# Altium schematic symbol library STM8系列单片机.SchLib: 36 symbols
Pins are listed as number, name and electrical type; pins without a type are passive.

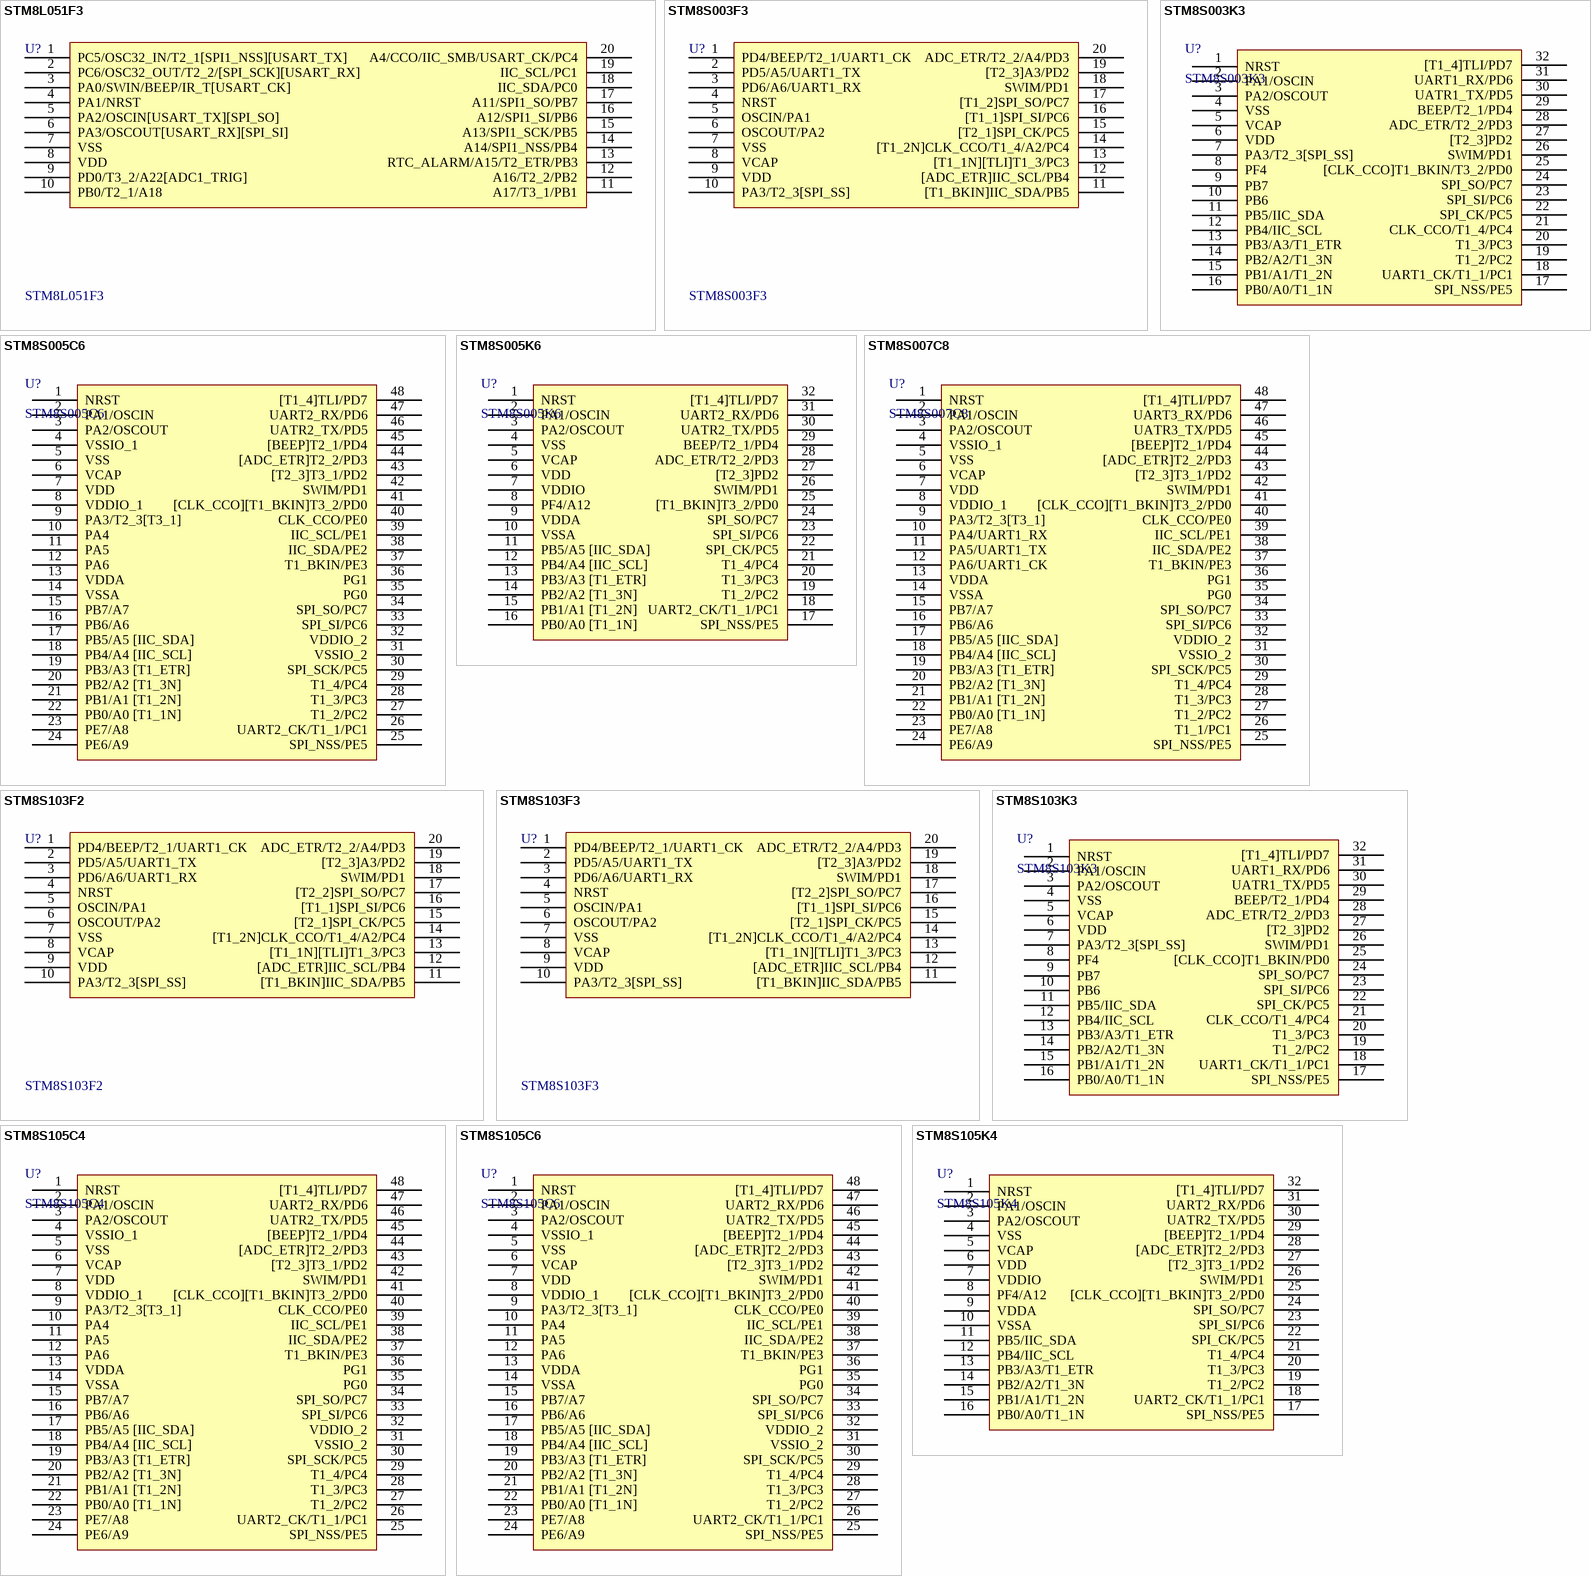
[diagram p0: symbols STM8L051F3 to STM8S105K4]

## STM8L051F3
designator U?
8位STM单片机; 版权归属: 黎明电子style; BOM名称: 8位STM单片机; 学习资源: https://lmdzstyle.taobao.com/
footprint TSSOP20_N (6.5*6.4*1（长宽高）)
footprint TSSOP20_L (6.5*6.4*1（长宽高）)
footprint TSSOP20_M (6.5*6.4*1（长宽高）)
pins: 1 PC5/OSC32_IN/T2_1[SPI1_NSS][USART_TX], 2 PC6/OSC32_OUT/T2_2/[SPI_SCK][USART_RX], 3 PA0/SWIN/BEEP/IR_T[USART_CK], 4 PA1/NRST, 5 PA2/OSCIN[USART_TX][SPI_SO], 6 PA3/OSCOUT[USART_RX][SPI_SI], 7 VSS, 8 VDD, 9 PD0/T3_2/A22[ADC1_TRIG], 10 PB0/T2_1/A18, 11 A17/T3_1/PB1, 12 A16/T2_2/PB2, 13 RTC_ALARM/A15/T2_ETR/PB3, 14 A14/SPI1_NSS/PB4, 15 A13/SPI1_SCK/PB5, 16 A12/SPI1_SI/PB6, 17 A11/SPI1_SO/PB7, 18 IIC_SDA/PC0, 19 IIC_SCL/PC1, 20 A4/CCO/IIC_SMB/USART_CK/PC4

## STM8S003F3
designator U?
8位STM单片机; 版权归属: 黎明电子style; BOM名称: 8位STM单片机; 学习资源: https://lmdzstyle.taobao.com/
footprint TSSOP20_N (6.5*6.4*1（长宽高）)
footprint TSSOP20_L (6.5*6.4*1（长宽高）)
footprint TSSOP20_M (6.5*6.4*1（长宽高）)
pins: 1 PD4/BEEP/T2_1/UART1_CK, 2 PD5/A5/UART1_TX, 3 PD6/A6/UART1_RX, 4 NRST, 5 OSCIN/PA1, 6 OSCOUT/PA2, 7 VSS, 8 VCAP, 9 VDD, 10 PA3/T2_3[SPI_SS], 11 [T1_BKIN]IIC_SDA/PB5, 12 [ADC_ETR]IIC_SCL/PB4, 13 [T1_1N][TLI]T1_3/PC3, 14 [T1_2N]CLK_CCO/T1_4/A2/PC4, 15 [T2_1]SPI_CK/PC5, 16 [T1_1]SPI_SI/PC6, 17 [T1_2]SPI_SO/PC7, 18 SWIM/PD1, 19 [T2_3]A3/PD2, 20 ADC_ETR/T2_2/A4/PD3

## STM8S003K3
designator U?
8位STM单片机; 版权归属: 黎明电子style; BOM名称: 8位STM单片机; 学习资源: https://lmdzstyle.taobao.com/
footprint LQFP32 7X7_N (7*7*1.4(长宽高，除引脚）)
footprint LQFP32 7X7_L (7*7*1.4(长宽高，除引脚）)
footprint LQFP32 7X7_M (7*7*1.4(长宽高，除引脚）)
pins: 1 NRST, 2 PA1/OSCIN, 3 PA2/OSCOUT, 4 VSS, 5 VCAP, 6 VDD, 7 PA3/T2_3[SPI_SS], 8 PF4, 9 PB7, 10 PB6, 11 PB5/IIC_SDA, 12 PB4/IIC_SCL, 13 PB3/A3/T1_ETR, 14 PB2/A2/T1_3N, 15 PB1/A1/T1_2N, 16 PB0/A0/T1_1N, 17 SPI_NSS/PE5, 18 UART1_CK/T1_1/PC1, 19 T1_2/PC2, 20 T1_3/PC3, 21 CLK_CCO/T1_4/PC4, 22 SPI_CK/PC5, 23 SPI_SI/PC6, 24 SPI_SO/PC7, 25 [CLK_CCO]T1_BKIN/T3_2/PD0, 26 SWIM/PD1, 27 [T2_3]PD2, 28 ADC_ETR/T2_2/PD3, 29 BEEP/T2_1/PD4, 30 UATR1_TX/PD5, 31 UART1_RX/PD6, 32 [T1_4]TLI/PD7

## STM8S005C6
designator U?
8位STM单片机; 版权归属: 黎明电子style; BOM名称: 8位STM单片机; 学习资源: https://lmdzstyle.taobao.com/
footprint LQFP48 7x7_N (7*7*1.4(长宽高，除引脚）)
footprint LQFP48 7x7_L (7*7*1.4(长宽高，除引脚）)
footprint LQFP48 7x7_M (7*7*1.4(长宽高，除引脚）)
pins: 1 NRST, 2 PA1/OSCIN, 3 PA2/OSCOUT, 4 VSSIO_1, 5 VSS, 6 VCAP, 7 VDD, 8 VDDIO_1, 9 PA3/T2_3[T3_1], 10 PA4, 11 PA5, 12 PA6, 13 VDDA, 14 VSSA, 15 PB7/A7, 16 PB6/A6, 17 PB5/A5 [IIC_SDA], 18 PB4/A4 [IIC_SCL], 19 PB3/A3 [T1_ETR], 20 PB2/A2 [T1_3N], 21 PB1/A1 [T1_2N], 22 PB0/A0 [T1_1N], 23 PE7/A8, 24 PE6/A9, 25 SPI_NSS/PE5, 26 UART2_CK/T1_1/PC1, 27 T1_2/PC2, 28 T1_3/PC3, 29 T1_4/PC4, 30 SPI_SCK/PC5, 31 VSSIO_2, 32 VDDIO_2, 33 SPI_SI/PC6, 34 SPI_SO/PC7, 35 PG0, 36 PG1, 37 T1_BKIN/PE3, 38 IIC_SDA/PE2, 39 IIC_SCL/PE1, 40 CLK_CCO/PE0, 41 [CLK_CCO][T1_BKIN]T3_2/PD0, 42 SWIM/PD1, 43 [T2_3]T3_1/PD2, 44 [ADC_ETR]T2_2/PD3, 45 [BEEP]T2_1/PD4, 46 UATR2_TX/PD5, 47 UART2_RX/PD6, 48 [T1_4]TLI/PD7

## STM8S005K6
designator U?
8位STM单片机; 版权归属: 黎明电子style; BOM名称: 8位STM单片机; 学习资源: https://lmdzstyle.taobao.com/
footprint LQFP32 7X7_N (7*7*1.4(长宽高，除引脚）)
footprint LQFP32 7X7_L (7*7*1.4(长宽高，除引脚）)
footprint LQFP32 7X7_M (7*7*1.4(长宽高，除引脚）)
pins: 1 NRST, 2 PA1/OSCIN, 3 PA2/OSCOUT, 4 VSS, 5 VCAP, 6 VDD, 7 VDDIO, 8 PF4/A12, 9 VDDA, 10 VSSA, 11 PB5/A5 [IIC_SDA], 12 PB4/A4 [IIC_SCL], 13 PB3/A3 [T1_ETR], 14 PB2/A2 [T1_3N], 15 PB1/A1 [T1_2N], 16 PB0/A0 [T1_1N], 17 SPI_NSS/PE5, 18 UART2_CK/T1_1/PC1, 19 T1_2/PC2, 20 T1_3/PC3, 21 T1_4/PC4, 22 SPI_CK/PC5, 23 SPI_SI/PC6, 24 SPI_SO/PC7, 25 [T1_BKIN]T3_2/PD0, 26 SWIM/PD1, 27 [T2_3]PD2, 28 ADC_ETR/T2_2/PD3, 29 BEEP/T2_1/PD4, 30 UATR2_TX/PD5, 31 UART2_RX/PD6, 32 [T1_4]TLI/PD7

## STM8S007C8
designator U?
8位STM单片机; 版权归属: 黎明电子style; BOM名称: 8位STM单片机; 学习资源: https://lmdzstyle.taobao.com/
footprint LQFP48 7x7_N (7*7*1.4(长宽高，除引脚）)
footprint LQFP48 7x7_L (7*7*1.4(长宽高，除引脚）)
footprint LQFP48 7x7_M (7*7*1.4(长宽高，除引脚）)
pins: 1 NRST, 2 PA1/OSCIN, 3 PA2/OSCOUT, 4 VSSIO_1, 5 VSS, 6 VCAP, 7 VDD, 8 VDDIO_1, 9 PA3/T2_3[T3_1], 10 PA4/UART1_RX, 11 PA5/UART1_TX, 12 PA6/UART1_CK, 13 VDDA, 14 VSSA, 15 PB7/A7, 16 PB6/A6, 17 PB5/A5 [IIC_SDA], 18 PB4/A4 [IIC_SCL], 19 PB3/A3 [T1_ETR], 20 PB2/A2 [T1_3N], 21 PB1/A1 [T1_2N], 22 PB0/A0 [T1_1N], 23 PE7/A8, 24 PE6/A9, 25 SPI_NSS/PE5, 26 T1_1/PC1, 27 T1_2/PC2, 28 T1_3/PC3, 29 T1_4/PC4, 30 SPI_SCK/PC5, 31 VSSIO_2, 32 VDDIO_2, 33 SPI_SI/PC6, 34 SPI_SO/PC7, 35 PG0, 36 PG1, 37 T1_BKIN/PE3, 38 IIC_SDA/PE2, 39 IIC_SCL/PE1, 40 CLK_CCO/PE0, 41 [CLK_CCO][T1_BKIN]T3_2/PD0, 42 SWIM/PD1, 43 [T2_3]T3_1/PD2, 44 [ADC_ETR]T2_2/PD3, 45 [BEEP]T2_1/PD4, 46 UATR3_TX/PD5, 47 UART3_RX/PD6, 48 [T1_4]TLI/PD7

## STM8S103F2
designator U?
8位STM单片机; 版权归属: 黎明电子style; BOM名称: 8位STM单片机; 学习资源: https://lmdzstyle.taobao.com/
footprint TSSOP20_N (6.5*6.4*1（长宽高）)
footprint TSSOP20_L (6.5*6.4*1（长宽高）)
footprint TSSOP20_M (6.5*6.4*1（长宽高）)
pins: 1 PD4/BEEP/T2_1/UART1_CK, 2 PD5/A5/UART1_TX, 3 PD6/A6/UART1_RX, 4 NRST, 5 OSCIN/PA1, 6 OSCOUT/PA2, 7 VSS, 8 VCAP, 9 VDD, 10 PA3/T2_3[SPI_SS], 11 [T1_BKIN]IIC_SDA/PB5, 12 [ADC_ETR]IIC_SCL/PB4, 13 [T1_1N][TLI]T1_3/PC3, 14 [T1_2N]CLK_CCO/T1_4/A2/PC4, 15 [T2_1]SPI_CK/PC5, 16 [T1_1]SPI_SI/PC6, 17 [T2_2]SPI_SO/PC7, 18 SWIM/PD1, 19 [T2_3]A3/PD2, 20 ADC_ETR/T2_2/A4/PD3

## STM8S103F3
designator U?
8位STM单片机; 版权归属: 黎明电子style; BOM名称: 8位STM单片机; 学习资源: https://lmdzstyle.taobao.com/
footprint TSSOP20_N (6.5*6.4*1（长宽高）)
footprint TSSOP20_L (6.5*6.4*1（长宽高）)
footprint TSSOP20_M (6.5*6.4*1（长宽高）)
pins: 1 PD4/BEEP/T2_1/UART1_CK, 2 PD5/A5/UART1_TX, 3 PD6/A6/UART1_RX, 4 NRST, 5 OSCIN/PA1, 6 OSCOUT/PA2, 7 VSS, 8 VCAP, 9 VDD, 10 PA3/T2_3[SPI_SS], 11 [T1_BKIN]IIC_SDA/PB5, 12 [ADC_ETR]IIC_SCL/PB4, 13 [T1_1N][TLI]T1_3/PC3, 14 [T1_2N]CLK_CCO/T1_4/A2/PC4, 15 [T2_1]SPI_CK/PC5, 16 [T1_1]SPI_SI/PC6, 17 [T2_2]SPI_SO/PC7, 18 SWIM/PD1, 19 [T2_3]A3/PD2, 20 ADC_ETR/T2_2/A4/PD3

## STM8S103K3
designator U?
8位STM单片机; 版权归属: 黎明电子style; BOM名称: 8位STM单片机; 学习资源: https://lmdzstyle.taobao.com/
footprint LQFP32 7X7_N (7*7*1.4(长宽高，除引脚）)
footprint LQFP32 7X7_L (7*7*1.4(长宽高，除引脚）)
footprint LQFP32 7X7_M (7*7*1.4(长宽高，除引脚）)
pins: 1 NRST, 2 PA1/OSCIN, 3 PA2/OSCOUT, 4 VSS, 5 VCAP, 6 VDD, 7 PA3/T2_3[SPI_SS], 8 PF4, 9 PB7, 10 PB6, 11 PB5/IIC_SDA, 12 PB4/IIC_SCL, 13 PB3/A3/T1_ETR, 14 PB2/A2/T1_3N, 15 PB1/A1/T1_2N, 16 PB0/A0/T1_1N, 17 SPI_NSS/PE5, 18 UART1_CK/T1_1/PC1, 19 T1_2/PC2, 20 T1_3/PC3, 21 CLK_CCO/T1_4/PC4, 22 SPI_CK/PC5, 23 SPI_SI/PC6, 24 SPI_SO/PC7, 25 [CLK_CCO]T1_BKIN/PD0, 26 SWIM/PD1, 27 [T2_3]PD2, 28 ADC_ETR/T2_2/PD3, 29 BEEP/T2_1/PD4, 30 UATR1_TX/PD5, 31 UART1_RX/PD6, 32 [T1_4]TLI/PD7

## STM8S105C4
designator U?
8位STM单片机; 版权归属: 黎明电子style; BOM名称: 8位STM单片机; 学习资源: https://lmdzstyle.taobao.com/
footprint LQFP48 7x7_N (7*7*1.4(长宽高，除引脚）)
footprint LQFP48 7x7_L (7*7*1.4(长宽高，除引脚）)
footprint LQFP48 7x7_M (7*7*1.4(长宽高，除引脚）)
pins: 1 NRST, 2 PA1/OSCIN, 3 PA2/OSCOUT, 4 VSSIO_1, 5 VSS, 6 VCAP, 7 VDD, 8 VDDIO_1, 9 PA3/T2_3[T3_1], 10 PA4, 11 PA5, 12 PA6, 13 VDDA, 14 VSSA, 15 PB7/A7, 16 PB6/A6, 17 PB5/A5 [IIC_SDA], 18 PB4/A4 [IIC_SCL], 19 PB3/A3 [T1_ETR], 20 PB2/A2 [T1_3N], 21 PB1/A1 [T1_2N], 22 PB0/A0 [T1_1N], 23 PE7/A8, 24 PE6/A9, 25 SPI_NSS/PE5, 26 UART2_CK/T1_1/PC1, 27 T1_2/PC2, 28 T1_3/PC3, 29 T1_4/PC4, 30 SPI_SCK/PC5, 31 VSSIO_2, 32 VDDIO_2, 33 SPI_SI/PC6, 34 SPI_SO/PC7, 35 PG0, 36 PG1, 37 T1_BKIN/PE3, 38 IIC_SDA/PE2, 39 IIC_SCL/PE1, 40 CLK_CCO/PE0, 41 [CLK_CCO][T1_BKIN]T3_2/PD0, 42 SWIM/PD1, 43 [T2_3]T3_1/PD2, 44 [ADC_ETR]T2_2/PD3, 45 [BEEP]T2_1/PD4, 46 UATR2_TX/PD5, 47 UART2_RX/PD6, 48 [T1_4]TLI/PD7

## STM8S105C6
designator U?
8位STM单片机; 版权归属: 黎明电子style; BOM名称: 8位STM单片机; 学习资源: https://lmdzstyle.taobao.com/
footprint LQFP48 7x7_N (7*7*1.4(长宽高，除引脚）)
footprint LQFP48 7x7_L (7*7*1.4(长宽高，除引脚）)
footprint LQFP48 7x7_M (7*7*1.4(长宽高，除引脚）)
pins: 1 NRST, 2 PA1/OSCIN, 3 PA2/OSCOUT, 4 VSSIO_1, 5 VSS, 6 VCAP, 7 VDD, 8 VDDIO_1, 9 PA3/T2_3[T3_1], 10 PA4, 11 PA5, 12 PA6, 13 VDDA, 14 VSSA, 15 PB7/A7, 16 PB6/A6, 17 PB5/A5 [IIC_SDA], 18 PB4/A4 [IIC_SCL], 19 PB3/A3 [T1_ETR], 20 PB2/A2 [T1_3N], 21 PB1/A1 [T1_2N], 22 PB0/A0 [T1_1N], 23 PE7/A8, 24 PE6/A9, 25 SPI_NSS/PE5, 26 UART2_CK/T1_1/PC1, 27 T1_2/PC2, 28 T1_3/PC3, 29 T1_4/PC4, 30 SPI_SCK/PC5, 31 VSSIO_2, 32 VDDIO_2, 33 SPI_SI/PC6, 34 SPI_SO/PC7, 35 PG0, 36 PG1, 37 T1_BKIN/PE3, 38 IIC_SDA/PE2, 39 IIC_SCL/PE1, 40 CLK_CCO/PE0, 41 [CLK_CCO][T1_BKIN]T3_2/PD0, 42 SWIM/PD1, 43 [T2_3]T3_1/PD2, 44 [ADC_ETR]T2_2/PD3, 45 [BEEP]T2_1/PD4, 46 UATR2_TX/PD5, 47 UART2_RX/PD6, 48 [T1_4]TLI/PD7

## STM8S105K4
designator U?
8位STM单片机; 版权归属: 黎明电子style; BOM名称: 8位STM单片机; 学习资源: https://lmdzstyle.taobao.com/
footprint LQFP32 7X7_N (7*7*1.4(长宽高，除引脚）)
footprint LQFP32 7X7_L (7*7*1.4(长宽高，除引脚）)
footprint LQFP32 7X7_M (7*7*1.4(长宽高，除引脚）)
pins: 1 NRST, 2 PA1/OSCIN, 3 PA2/OSCOUT, 4 VSS, 5 VCAP, 6 VDD, 7 VDDIO, 8 PF4/A12, 9 VDDA, 10 VSSA, 11 PB5/IIC_SDA, 12 PB4/IIC_SCL, 13 PB3/A3/T1_ETR, 14 PB2/A2/T1_3N, 15 PB1/A1/T1_2N, 16 PB0/A0/T1_1N, 17 SPI_NSS/PE5, 18 UART2_CK/T1_1/PC1, 19 T1_2/PC2, 20 T1_3/PC3, 21 T1_4/PC4, 22 SPI_CK/PC5, 23 SPI_SI/PC6, 24 SPI_SO/PC7, 25 [CLK_CCO][T1_BKIN]T3_2/PD0, 26 SWIM/PD1, 27 [T2_3]T3_1/PD2, 28 [ADC_ETR]T2_2/PD3, 29 [BEEP]T2_1/PD4, 30 UATR2_TX/PD5, 31 UART2_RX/PD6, 32 [T1_4]TLI/PD7

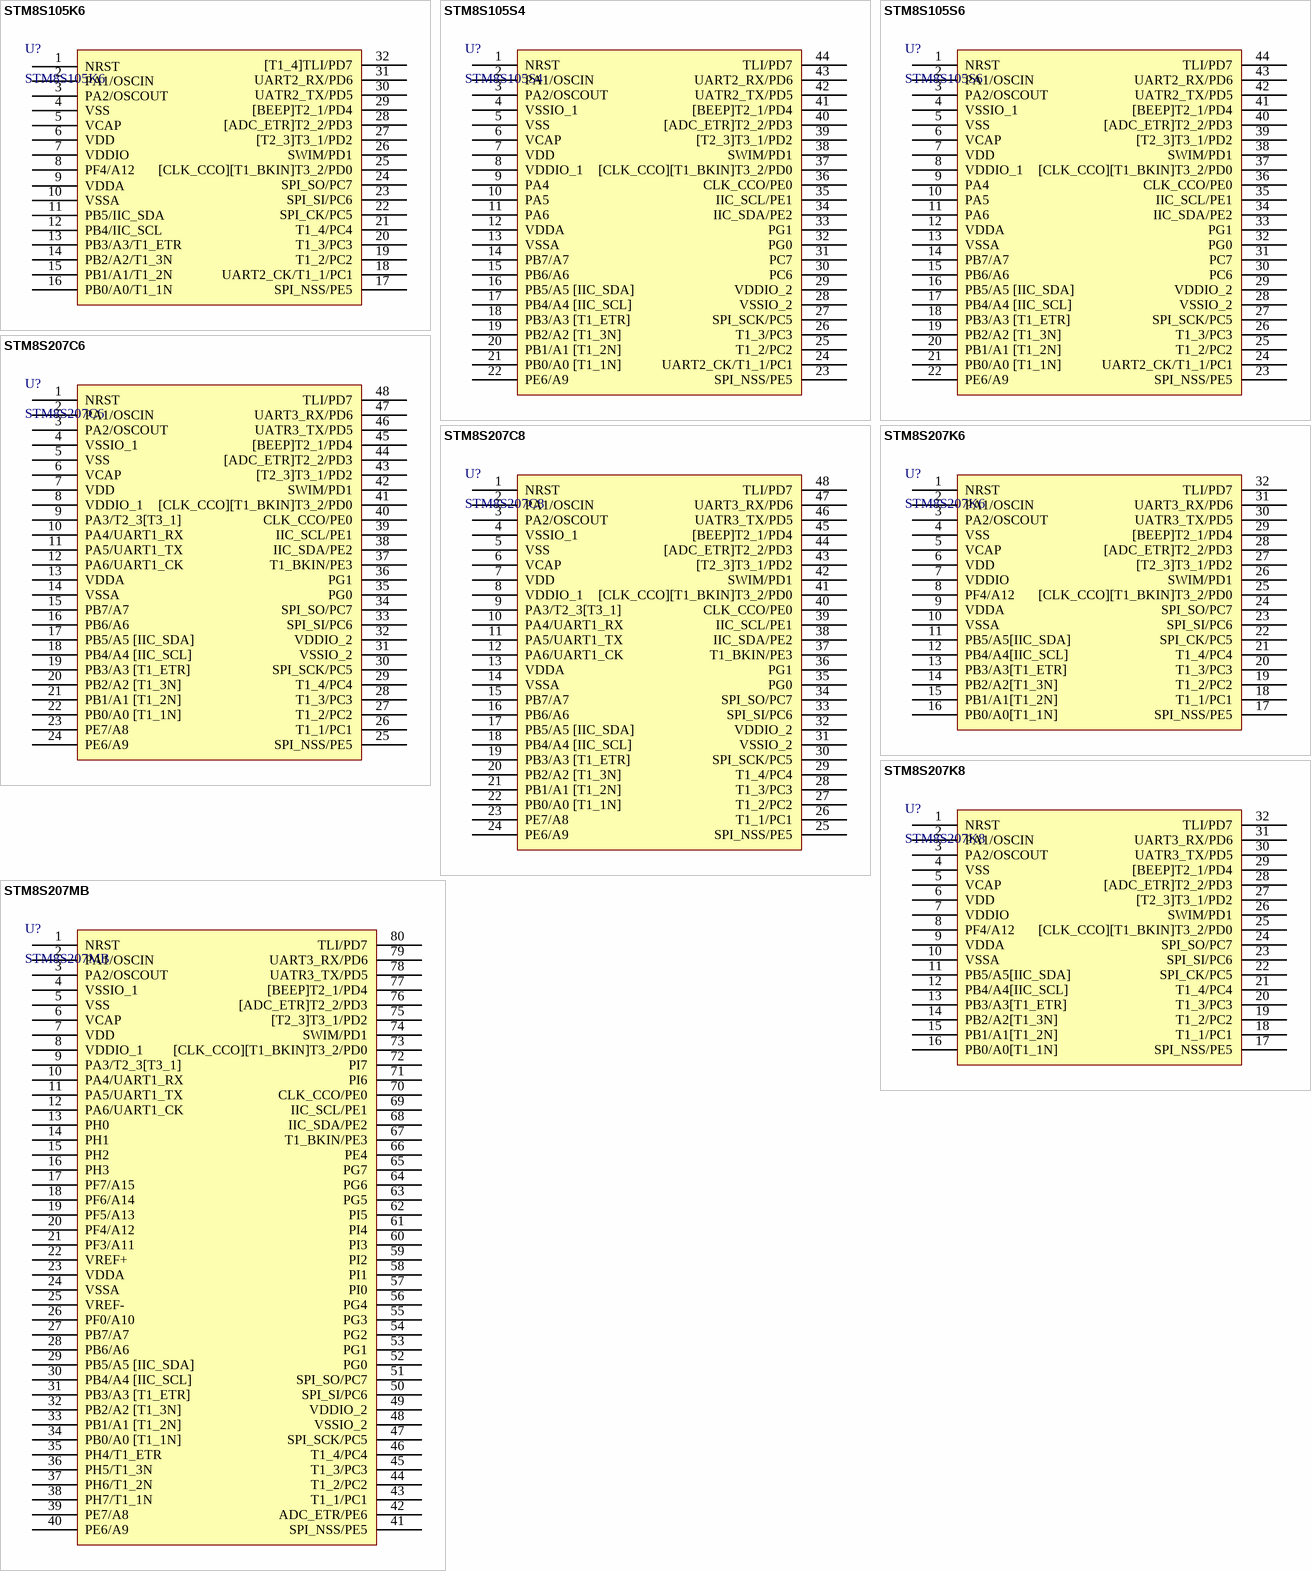
[diagram p1: symbols STM8S105K6 to STM8S207MB]

## STM8S105K6
designator U?
8位STM单片机; 版权归属: 黎明电子style; BOM名称: 8位STM单片机; 学习资源: https://lmdzstyle.taobao.com/
footprint LQFP32 7X7_N (7*7*1.4(长宽高，除引脚）)
footprint LQFP32 7X7_L (7*7*1.4(长宽高，除引脚）)
footprint LQFP32 7X7_M (7*7*1.4(长宽高，除引脚）)
pins: 1 NRST, 2 PA1/OSCIN, 3 PA2/OSCOUT, 4 VSS, 5 VCAP, 6 VDD, 7 VDDIO, 8 PF4/A12, 9 VDDA, 10 VSSA, 11 PB5/IIC_SDA, 12 PB4/IIC_SCL, 13 PB3/A3/T1_ETR, 14 PB2/A2/T1_3N, 15 PB1/A1/T1_2N, 16 PB0/A0/T1_1N, 17 SPI_NSS/PE5, 18 UART2_CK/T1_1/PC1, 19 T1_2/PC2, 20 T1_3/PC3, 21 T1_4/PC4, 22 SPI_CK/PC5, 23 SPI_SI/PC6, 24 SPI_SO/PC7, 25 [CLK_CCO][T1_BKIN]T3_2/PD0, 26 SWIM/PD1, 27 [T2_3]T3_1/PD2, 28 [ADC_ETR]T2_2/PD3, 29 [BEEP]T2_1/PD4, 30 UATR2_TX/PD5, 31 UART2_RX/PD6, 32 [T1_4]TLI/PD7

## STM8S105S4
designator U?
8位STM单片机; 版权归属: 黎明电子style; BOM名称: 8位STM单片机; 学习资源: https://lmdzstyle.taobao.com/
footprint LQFP44 10X10_N (10*10*1.4(长宽高，除引脚）)
footprint LQFP44 10X10_L (10*10*1.4(长宽高，除引脚）)
footprint LQFP44 10X10_M (10*10*1.4(长宽高，除引脚）)
pins: 1 NRST, 2 PA1/OSCIN, 3 PA2/OSCOUT, 4 VSSIO_1, 5 VSS, 6 VCAP, 7 VDD, 8 VDDIO_1, 9 PA4, 10 PA5, 11 PA6, 12 VDDA, 13 VSSA, 14 PB7/A7, 15 PB6/A6, 16 PB5/A5 [IIC_SDA], 17 PB4/A4 [IIC_SCL], 18 PB3/A3 [T1_ETR], 19 PB2/A2 [T1_3N], 20 PB1/A1 [T1_2N], 21 PB0/A0 [T1_1N], 22 PE6/A9, 23 SPI_NSS/PE5, 24 UART2_CK/T1_1/PC1, 25 T1_2/PC2, 26 T1_3/PC3, 27 SPI_SCK/PC5, 28 VSSIO_2, 29 VDDIO_2, 30 PC6, 31 PC7, 32 PG0, 33 PG1, 34 IIC_SDA/PE2, 35 IIC_SCL/PE1, 36 CLK_CCO/PE0, 37 [CLK_CCO][T1_BKIN]T3_2/PD0, 38 SWIM/PD1, 39 [T2_3]T3_1/PD2, 40 [ADC_ETR]T2_2/PD3, 41 [BEEP]T2_1/PD4, 42 UATR2_TX/PD5, 43 UART2_RX/PD6, 44 TLI/PD7

## STM8S105S6
designator U?
8位STM单片机; 版权归属: 黎明电子style; BOM名称: 8位STM单片机; 学习资源: https://lmdzstyle.taobao.com/
footprint LQFP44 10X10_N (10*10*1.4(长宽高，除引脚）)
footprint LQFP44 10X10_L (10*10*1.4(长宽高，除引脚）)
footprint LQFP44 10X10_M (10*10*1.4(长宽高，除引脚）)
pins: 1 NRST, 2 PA1/OSCIN, 3 PA2/OSCOUT, 4 VSSIO_1, 5 VSS, 6 VCAP, 7 VDD, 8 VDDIO_1, 9 PA4, 10 PA5, 11 PA6, 12 VDDA, 13 VSSA, 14 PB7/A7, 15 PB6/A6, 16 PB5/A5 [IIC_SDA], 17 PB4/A4 [IIC_SCL], 18 PB3/A3 [T1_ETR], 19 PB2/A2 [T1_3N], 20 PB1/A1 [T1_2N], 21 PB0/A0 [T1_1N], 22 PE6/A9, 23 SPI_NSS/PE5, 24 UART2_CK/T1_1/PC1, 25 T1_2/PC2, 26 T1_3/PC3, 27 SPI_SCK/PC5, 28 VSSIO_2, 29 VDDIO_2, 30 PC6, 31 PC7, 32 PG0, 33 PG1, 34 IIC_SDA/PE2, 35 IIC_SCL/PE1, 36 CLK_CCO/PE0, 37 [CLK_CCO][T1_BKIN]T3_2/PD0, 38 SWIM/PD1, 39 [T2_3]T3_1/PD2, 40 [ADC_ETR]T2_2/PD3, 41 [BEEP]T2_1/PD4, 42 UATR2_TX/PD5, 43 UART2_RX/PD6, 44 TLI/PD7

## STM8S207C6
designator U?
8位STM单片机; 版权归属: 黎明电子style; BOM名称: 8位STM单片机; 学习资源: https://lmdzstyle.taobao.com/
footprint LQFP48 7x7_N (7*7*1.4(长宽高，除引脚）)
footprint LQFP48 7x7_L (7*7*1.4(长宽高，除引脚）)
footprint LQFP48 7x7_M (7*7*1.4(长宽高，除引脚）)
pins: 1 NRST, 2 PA1/OSCIN, 3 PA2/OSCOUT, 4 VSSIO_1, 5 VSS, 6 VCAP, 7 VDD, 8 VDDIO_1, 9 PA3/T2_3[T3_1], 10 PA4/UART1_RX, 11 PA5/UART1_TX, 12 PA6/UART1_CK, 13 VDDA, 14 VSSA, 15 PB7/A7, 16 PB6/A6, 17 PB5/A5 [IIC_SDA], 18 PB4/A4 [IIC_SCL], 19 PB3/A3 [T1_ETR], 20 PB2/A2 [T1_3N], 21 PB1/A1 [T1_2N], 22 PB0/A0 [T1_1N], 23 PE7/A8, 24 PE6/A9, 25 SPI_NSS/PE5, 26 T1_1/PC1, 27 T1_2/PC2, 28 T1_3/PC3, 29 T1_4/PC4, 30 SPI_SCK/PC5, 31 VSSIO_2, 32 VDDIO_2, 33 SPI_SI/PC6, 34 SPI_SO/PC7, 35 PG0, 36 PG1, 37 T1_BKIN/PE3, 38 IIC_SDA/PE2, 39 IIC_SCL/PE1, 40 CLK_CCO/PE0, 41 [CLK_CCO][T1_BKIN]T3_2/PD0, 42 SWIM/PD1, 43 [T2_3]T3_1/PD2, 44 [ADC_ETR]T2_2/PD3, 45 [BEEP]T2_1/PD4, 46 UATR3_TX/PD5, 47 UART3_RX/PD6, 48 TLI/PD7

## STM8S207C8
designator U?
8位STM单片机; 版权归属: 黎明电子style; BOM名称: 8位STM单片机; 学习资源: https://lmdzstyle.taobao.com/
footprint LQFP48 7x7_N (7*7*1.4(长宽高，除引脚）)
footprint LQFP48 7x7_L (7*7*1.4(长宽高，除引脚）)
footprint LQFP48 7x7_M (7*7*1.4(长宽高，除引脚）)
pins: 1 NRST, 2 PA1/OSCIN, 3 PA2/OSCOUT, 4 VSSIO_1, 5 VSS, 6 VCAP, 7 VDD, 8 VDDIO_1, 9 PA3/T2_3[T3_1], 10 PA4/UART1_RX, 11 PA5/UART1_TX, 12 PA6/UART1_CK, 13 VDDA, 14 VSSA, 15 PB7/A7, 16 PB6/A6, 17 PB5/A5 [IIC_SDA], 18 PB4/A4 [IIC_SCL], 19 PB3/A3 [T1_ETR], 20 PB2/A2 [T1_3N], 21 PB1/A1 [T1_2N], 22 PB0/A0 [T1_1N], 23 PE7/A8, 24 PE6/A9, 25 SPI_NSS/PE5, 26 T1_1/PC1, 27 T1_2/PC2, 28 T1_3/PC3, 29 T1_4/PC4, 30 SPI_SCK/PC5, 31 VSSIO_2, 32 VDDIO_2, 33 SPI_SI/PC6, 34 SPI_SO/PC7, 35 PG0, 36 PG1, 37 T1_BKIN/PE3, 38 IIC_SDA/PE2, 39 IIC_SCL/PE1, 40 CLK_CCO/PE0, 41 [CLK_CCO][T1_BKIN]T3_2/PD0, 42 SWIM/PD1, 43 [T2_3]T3_1/PD2, 44 [ADC_ETR]T2_2/PD3, 45 [BEEP]T2_1/PD4, 46 UATR3_TX/PD5, 47 UART3_RX/PD6, 48 TLI/PD7

## STM8S207K6
designator U?
8位STM单片机; 版权归属: 黎明电子style; BOM名称: 8位STM单片机; 学习资源: https://lmdzstyle.taobao.com/
footprint LQFP32 7X7_N (7*7*1.4(长宽高，除引脚）)
footprint LQFP32 7X7_L (7*7*1.4(长宽高，除引脚）)
footprint LQFP32 7X7_M (7*7*1.4(长宽高，除引脚）)
pins: 1 NRST, 2 PA1/OSCIN, 3 PA2/OSCOUT, 4 VSS, 5 VCAP, 6 VDD, 7 VDDIO, 8 PF4/A12, 9 VDDA, 10 VSSA, 11 PB5/A5[IIC_SDA], 12 PB4/A4[IIC_SCL], 13 PB3/A3[T1_ETR], 14 PB2/A2[T1_3N], 15 PB1/A1[T1_2N], 16 PB0/A0[T1_1N], 17 SPI_NSS/PE5, 18 T1_1/PC1, 19 T1_2/PC2, 20 T1_3/PC3, 21 T1_4/PC4, 22 SPI_CK/PC5, 23 SPI_SI/PC6, 24 SPI_SO/PC7, 25 [CLK_CCO][T1_BKIN]T3_2/PD0, 26 SWIM/PD1, 27 [T2_3]T3_1/PD2, 28 [ADC_ETR]T2_2/PD3, 29 [BEEP]T2_1/PD4, 30 UATR3_TX/PD5, 31 UART3_RX/PD6, 32 TLI/PD7

## STM8S207K8
designator U?
8位STM单片机; 版权归属: 黎明电子style; BOM名称: 8位STM单片机; 学习资源: https://lmdzstyle.taobao.com/
footprint LQFP32 7X7_N (7*7*1.4(长宽高，除引脚）)
footprint LQFP32 7X7_L (7*7*1.4(长宽高，除引脚）)
footprint LQFP32 7X7_M (7*7*1.4(长宽高，除引脚）)
pins: 1 NRST, 2 PA1/OSCIN, 3 PA2/OSCOUT, 4 VSS, 5 VCAP, 6 VDD, 7 VDDIO, 8 PF4/A12, 9 VDDA, 10 VSSA, 11 PB5/A5[IIC_SDA], 12 PB4/A4[IIC_SCL], 13 PB3/A3[T1_ETR], 14 PB2/A2[T1_3N], 15 PB1/A1[T1_2N], 16 PB0/A0[T1_1N], 17 SPI_NSS/PE5, 18 T1_1/PC1, 19 T1_2/PC2, 20 T1_3/PC3, 21 T1_4/PC4, 22 SPI_CK/PC5, 23 SPI_SI/PC6, 24 SPI_SO/PC7, 25 [CLK_CCO][T1_BKIN]T3_2/PD0, 26 SWIM/PD1, 27 [T2_3]T3_1/PD2, 28 [ADC_ETR]T2_2/PD3, 29 [BEEP]T2_1/PD4, 30 UATR3_TX/PD5, 31 UART3_RX/PD6, 32 TLI/PD7

## STM8S207MB
designator U?
8位STM单片机; 版权归属: 黎明电子style; BOM名称: 8位STM单片机; 学习资源: https://lmdzstyle.taobao.com/
footprint LQFP80 14x14_N (14*14*1.4(长宽高，除引脚）)
footprint LQFP80 14x14_L (14*14*1.4(长宽高，除引脚）)
footprint LQFP80 14x14_M (14*14*1.4(长宽高，除引脚）)
pins: 1 NRST, 2 PA1/OSCIN, 3 PA2/OSCOUT, 4 VSSIO_1, 5 VSS, 6 VCAP, 7 VDD, 8 VDDIO_1, 9 PA3/T2_3[T3_1], 10 PA4/UART1_RX, 11 PA5/UART1_TX, 12 PA6/UART1_CK, 13 PH0, 14 PH1, 15 PH2, 16 PH3, 17 PF7/A15, 18 PF6/A14, 19 PF5/A13, 20 PF4/A12, 21 PF3/A11, 22 VREF+, 23 VDDA, 24 VSSA, 25 VREF-, 26 PF0/A10, 27 PB7/A7, 28 PB6/A6, 29 PB5/A5 [IIC_SDA], 30 PB4/A4 [IIC_SCL], 31 PB3/A3 [T1_ETR], 32 PB2/A2 [T1_3N], 33 PB1/A1 [T1_2N], 34 PB0/A0 [T1_1N], 35 PH4/T1_ETR, 36 PH5/T1_3N, 37 PH6/T1_2N, 38 PH7/T1_1N, 39 PE7/A8, 40 PE6/A9, 41 SPI_NSS/PE5, 42 ADC_ETR/PE6, 43 T1_1/PC1, 44 T1_2/PC2, 45 T1_3/PC3, 46 T1_4/PC4, 47 SPI_SCK/PC5, 48 VSSIO_2, 49 VDDIO_2, 50 SPI_SI/PC6, 51 SPI_SO/PC7, 52 PG0, 53 PG1, 54 PG2, 55 PG3, 56 PG4, 57 PI0, 58 PI1, 59 PI2, 60 PI3, 61 PI4, 62 PI5, 63 PG5, 64 PG6, 65 PG7, 66 PE4, 67 T1_BKIN/PE3, 68 IIC_SDA/PE2, 69 IIC_SCL/PE1, 70 CLK_CCO/PE0, 71 PI6, 72 PI7, 73 [CLK_CCO][T1_BKIN]T3_2/PD0, 74 SWIM/PD1, 75 [T2_3]T3_1/PD2, 76 [ADC_ETR]T2_2/PD3, 77 [BEEP]T2_1/PD4, 78 UATR3_TX/PD5, 79 UART3_RX/PD6, 80 TLI/PD7

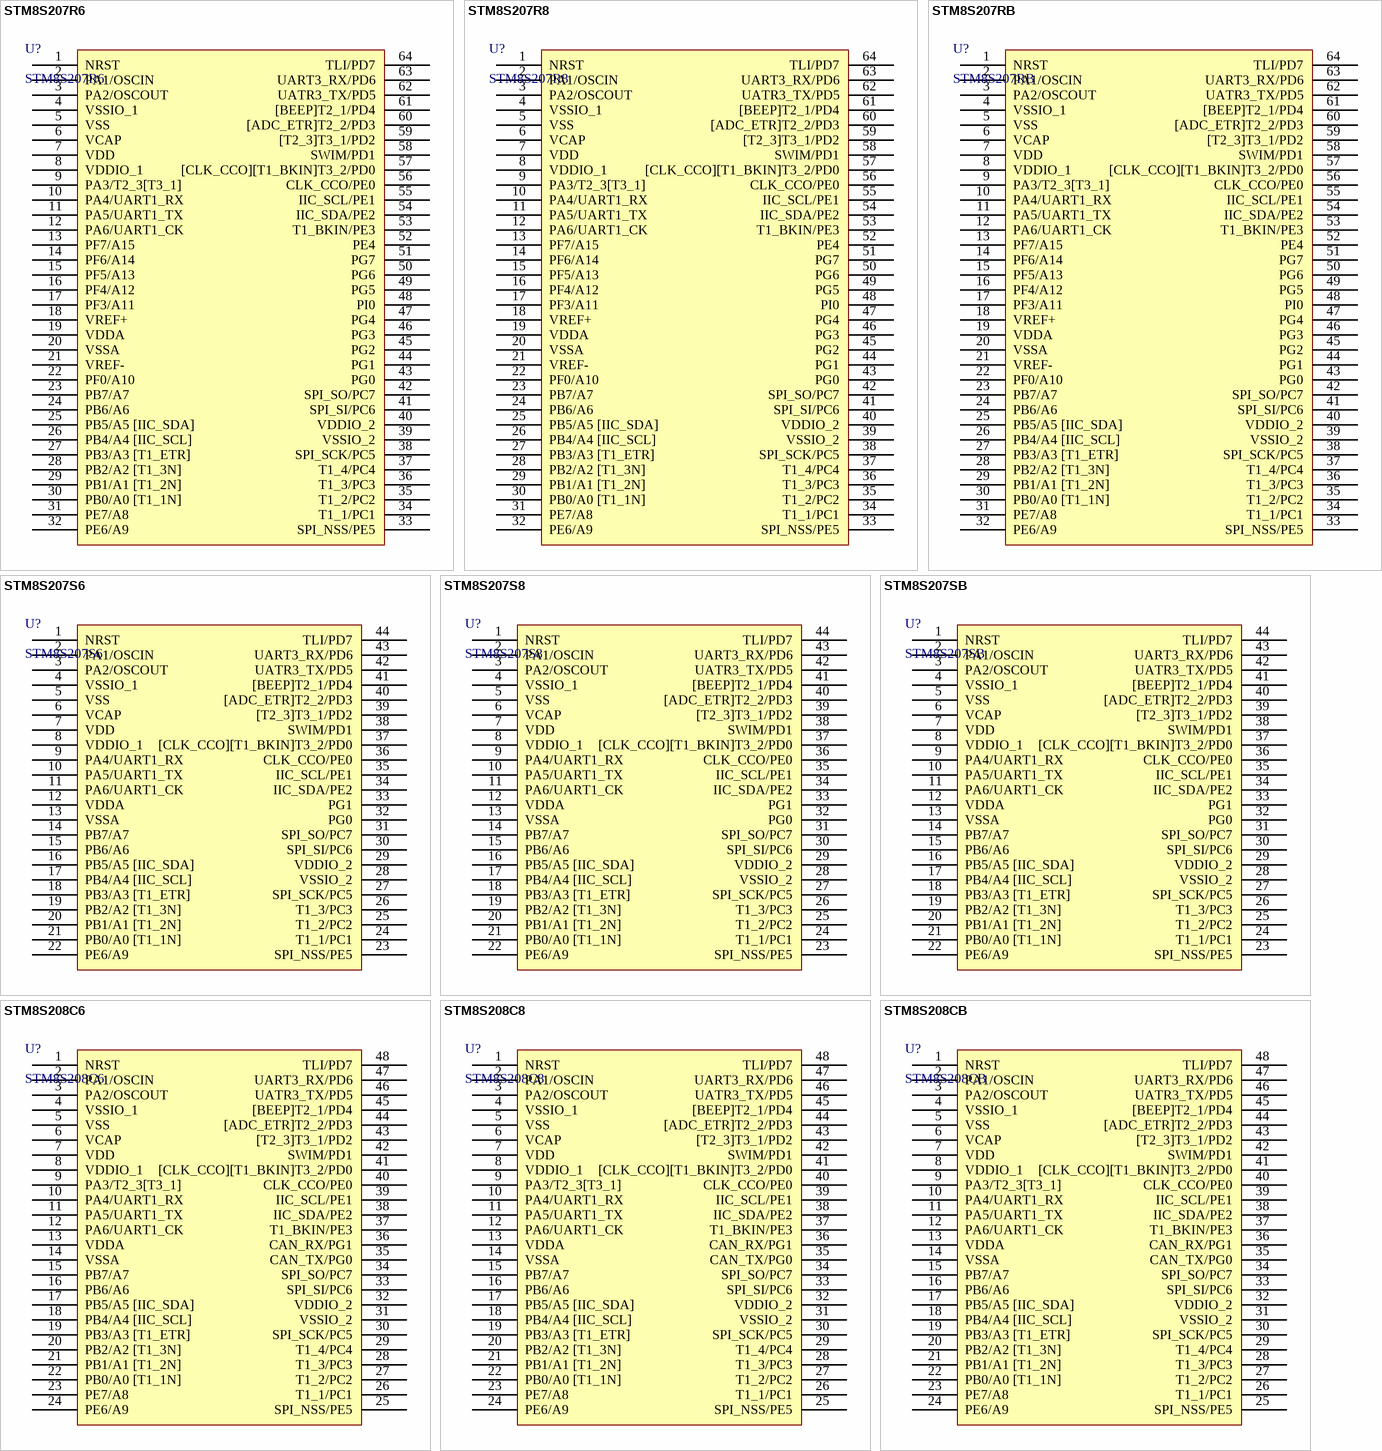
[diagram p2: symbols STM8S207R6 to STM8S208CB]

## STM8S207R6
designator U?
8位STM单片机; 版权归属: 黎明电子style; BOM名称: 8位STM单片机; 学习资源: https://lmdzstyle.taobao.com/
footprint LQFP64 10x10_N (14*14*1.4(长宽高，除引脚）)
footprint LQFP64 10x10_L (14*14*1.4(长宽高，除引脚）)
footprint LQFP64 10x10_M (14*14*1.4(长宽高，除引脚）)
pins: 1 NRST, 2 PA1/OSCIN, 3 PA2/OSCOUT, 4 VSSIO_1, 5 VSS, 6 VCAP, 7 VDD, 8 VDDIO_1, 9 PA3/T2_3[T3_1], 10 PA4/UART1_RX, 11 PA5/UART1_TX, 12 PA6/UART1_CK, 13 PF7/A15, 14 PF6/A14, 15 PF5/A13, 16 PF4/A12, 17 PF3/A11, 18 VREF+, 19 VDDA, 20 VSSA, 21 VREF-, 22 PF0/A10, 23 PB7/A7, 24 PB6/A6, 25 PB5/A5 [IIC_SDA], 26 PB4/A4 [IIC_SCL], 27 PB3/A3 [T1_ETR], 28 PB2/A2 [T1_3N], 29 PB1/A1 [T1_2N], 30 PB0/A0 [T1_1N], 31 PE7/A8, 32 PE6/A9, 33 SPI_NSS/PE5, 34 T1_1/PC1, 35 T1_2/PC2, 36 T1_3/PC3, 37 T1_4/PC4, 38 SPI_SCK/PC5, 39 VSSIO_2, 40 VDDIO_2, 41 SPI_SI/PC6, 42 SPI_SO/PC7, 43 PG0, 44 PG1, 45 PG2, 46 PG3, 47 PG4, 48 PI0, 49 PG5, 50 PG6, 51 PG7, 52 PE4, 53 T1_BKIN/PE3, 54 IIC_SDA/PE2, 55 IIC_SCL/PE1, 56 CLK_CCO/PE0, 57 [CLK_CCO][T1_BKIN]T3_2/PD0, 58 SWIM/PD1, 59 [T2_3]T3_1/PD2, 60 [ADC_ETR]T2_2/PD3, 61 [BEEP]T2_1/PD4, 62 UATR3_TX/PD5, 63 UART3_RX/PD6, 64 TLI/PD7

## STM8S207R8
designator U?
8位STM单片机; 版权归属: 黎明电子style; BOM名称: 8位STM单片机; 学习资源: https://lmdzstyle.taobao.com/
footprint LQFP64 10x10_N (14*14*1.4(长宽高，除引脚）)
footprint LQFP64 10x10_L (14*14*1.4(长宽高，除引脚）)
footprint LQFP64 10x10_M (14*14*1.4(长宽高，除引脚）)
pins: 1 NRST, 2 PA1/OSCIN, 3 PA2/OSCOUT, 4 VSSIO_1, 5 VSS, 6 VCAP, 7 VDD, 8 VDDIO_1, 9 PA3/T2_3[T3_1], 10 PA4/UART1_RX, 11 PA5/UART1_TX, 12 PA6/UART1_CK, 13 PF7/A15, 14 PF6/A14, 15 PF5/A13, 16 PF4/A12, 17 PF3/A11, 18 VREF+, 19 VDDA, 20 VSSA, 21 VREF-, 22 PF0/A10, 23 PB7/A7, 24 PB6/A6, 25 PB5/A5 [IIC_SDA], 26 PB4/A4 [IIC_SCL], 27 PB3/A3 [T1_ETR], 28 PB2/A2 [T1_3N], 29 PB1/A1 [T1_2N], 30 PB0/A0 [T1_1N], 31 PE7/A8, 32 PE6/A9, 33 SPI_NSS/PE5, 34 T1_1/PC1, 35 T1_2/PC2, 36 T1_3/PC3, 37 T1_4/PC4, 38 SPI_SCK/PC5, 39 VSSIO_2, 40 VDDIO_2, 41 SPI_SI/PC6, 42 SPI_SO/PC7, 43 PG0, 44 PG1, 45 PG2, 46 PG3, 47 PG4, 48 PI0, 49 PG5, 50 PG6, 51 PG7, 52 PE4, 53 T1_BKIN/PE3, 54 IIC_SDA/PE2, 55 IIC_SCL/PE1, 56 CLK_CCO/PE0, 57 [CLK_CCO][T1_BKIN]T3_2/PD0, 58 SWIM/PD1, 59 [T2_3]T3_1/PD2, 60 [ADC_ETR]T2_2/PD3, 61 [BEEP]T2_1/PD4, 62 UATR3_TX/PD5, 63 UART3_RX/PD6, 64 TLI/PD7

## STM8S207RB
designator U?
8位STM单片机; 版权归属: 黎明电子style; BOM名称: 8位STM单片机; 学习资源: https://lmdzstyle.taobao.com/
footprint LQFP64 10x10_N (14*14*1.4(长宽高，除引脚）)
footprint LQFP64 10x10_L (14*14*1.4(长宽高，除引脚）)
footprint LQFP64 10x10_M (14*14*1.4(长宽高，除引脚）)
pins: 1 NRST, 2 PA1/OSCIN, 3 PA2/OSCOUT, 4 VSSIO_1, 5 VSS, 6 VCAP, 7 VDD, 8 VDDIO_1, 9 PA3/T2_3[T3_1], 10 PA4/UART1_RX, 11 PA5/UART1_TX, 12 PA6/UART1_CK, 13 PF7/A15, 14 PF6/A14, 15 PF5/A13, 16 PF4/A12, 17 PF3/A11, 18 VREF+, 19 VDDA, 20 VSSA, 21 VREF-, 22 PF0/A10, 23 PB7/A7, 24 PB6/A6, 25 PB5/A5 [IIC_SDA], 26 PB4/A4 [IIC_SCL], 27 PB3/A3 [T1_ETR], 28 PB2/A2 [T1_3N], 29 PB1/A1 [T1_2N], 30 PB0/A0 [T1_1N], 31 PE7/A8, 32 PE6/A9, 33 SPI_NSS/PE5, 34 T1_1/PC1, 35 T1_2/PC2, 36 T1_3/PC3, 37 T1_4/PC4, 38 SPI_SCK/PC5, 39 VSSIO_2, 40 VDDIO_2, 41 SPI_SI/PC6, 42 SPI_SO/PC7, 43 PG0, 44 PG1, 45 PG2, 46 PG3, 47 PG4, 48 PI0, 49 PG5, 50 PG6, 51 PG7, 52 PE4, 53 T1_BKIN/PE3, 54 IIC_SDA/PE2, 55 IIC_SCL/PE1, 56 CLK_CCO/PE0, 57 [CLK_CCO][T1_BKIN]T3_2/PD0, 58 SWIM/PD1, 59 [T2_3]T3_1/PD2, 60 [ADC_ETR]T2_2/PD3, 61 [BEEP]T2_1/PD4, 62 UATR3_TX/PD5, 63 UART3_RX/PD6, 64 TLI/PD7

## STM8S207S6
designator U?
8位STM单片机; 版权归属: 黎明电子style; BOM名称: 8位STM单片机; 学习资源: https://lmdzstyle.taobao.com/
footprint LQFP44 10X10_N (10*10*1.4(长宽高，除引脚）)
footprint LQFP44 10X10_L (10*10*1.4(长宽高，除引脚）)
footprint LQFP44 10X10_M (10*10*1.4(长宽高，除引脚）)
pins: 1 NRST, 2 PA1/OSCIN, 3 PA2/OSCOUT, 4 VSSIO_1, 5 VSS, 6 VCAP, 7 VDD, 8 VDDIO_1, 9 PA4/UART1_RX, 10 PA5/UART1_TX, 11 PA6/UART1_CK, 12 VDDA, 13 VSSA, 14 PB7/A7, 15 PB6/A6, 16 PB5/A5 [IIC_SDA], 17 PB4/A4 [IIC_SCL], 18 PB3/A3 [T1_ETR], 19 PB2/A2 [T1_3N], 20 PB1/A1 [T1_2N], 21 PB0/A0 [T1_1N], 22 PE6/A9, 23 SPI_NSS/PE5, 24 T1_1/PC1, 25 T1_2/PC2, 26 T1_3/PC3, 27 SPI_SCK/PC5, 28 VSSIO_2, 29 VDDIO_2, 30 SPI_SI/PC6, 31 SPI_SO/PC7, 32 PG0, 33 PG1, 34 IIC_SDA/PE2, 35 IIC_SCL/PE1, 36 CLK_CCO/PE0, 37 [CLK_CCO][T1_BKIN]T3_2/PD0, 38 SWIM/PD1, 39 [T2_3]T3_1/PD2, 40 [ADC_ETR]T2_2/PD3, 41 [BEEP]T2_1/PD4, 42 UATR3_TX/PD5, 43 UART3_RX/PD6, 44 TLI/PD7

## STM8S207S8
designator U?
8位STM单片机; 版权归属: 黎明电子style; BOM名称: 8位STM单片机; 学习资源: https://lmdzstyle.taobao.com/
footprint LQFP44 10X10_N (10*10*1.4(长宽高，除引脚）)
footprint LQFP44 10X10_L (10*10*1.4(长宽高，除引脚）)
footprint LQFP44 10X10_M (10*10*1.4(长宽高，除引脚）)
pins: 1 NRST, 2 PA1/OSCIN, 3 PA2/OSCOUT, 4 VSSIO_1, 5 VSS, 6 VCAP, 7 VDD, 8 VDDIO_1, 9 PA4/UART1_RX, 10 PA5/UART1_TX, 11 PA6/UART1_CK, 12 VDDA, 13 VSSA, 14 PB7/A7, 15 PB6/A6, 16 PB5/A5 [IIC_SDA], 17 PB4/A4 [IIC_SCL], 18 PB3/A3 [T1_ETR], 19 PB2/A2 [T1_3N], 20 PB1/A1 [T1_2N], 21 PB0/A0 [T1_1N], 22 PE6/A9, 23 SPI_NSS/PE5, 24 T1_1/PC1, 25 T1_2/PC2, 26 T1_3/PC3, 27 SPI_SCK/PC5, 28 VSSIO_2, 29 VDDIO_2, 30 SPI_SI/PC6, 31 SPI_SO/PC7, 32 PG0, 33 PG1, 34 IIC_SDA/PE2, 35 IIC_SCL/PE1, 36 CLK_CCO/PE0, 37 [CLK_CCO][T1_BKIN]T3_2/PD0, 38 SWIM/PD1, 39 [T2_3]T3_1/PD2, 40 [ADC_ETR]T2_2/PD3, 41 [BEEP]T2_1/PD4, 42 UATR3_TX/PD5, 43 UART3_RX/PD6, 44 TLI/PD7

## STM8S207SB
designator U?
8位STM单片机; 版权归属: 黎明电子style; BOM名称: 8位STM单片机; 学习资源: https://lmdzstyle.taobao.com/
footprint LQFP44 10X10_N (10*10*1.4(长宽高，除引脚）)
footprint LQFP44 10X10_L (10*10*1.4(长宽高，除引脚）)
footprint LQFP44 10X10_M (10*10*1.4(长宽高，除引脚）)
pins: 1 NRST, 2 PA1/OSCIN, 3 PA2/OSCOUT, 4 VSSIO_1, 5 VSS, 6 VCAP, 7 VDD, 8 VDDIO_1, 9 PA4/UART1_RX, 10 PA5/UART1_TX, 11 PA6/UART1_CK, 12 VDDA, 13 VSSA, 14 PB7/A7, 15 PB6/A6, 16 PB5/A5 [IIC_SDA], 17 PB4/A4 [IIC_SCL], 18 PB3/A3 [T1_ETR], 19 PB2/A2 [T1_3N], 20 PB1/A1 [T1_2N], 21 PB0/A0 [T1_1N], 22 PE6/A9, 23 SPI_NSS/PE5, 24 T1_1/PC1, 25 T1_2/PC2, 26 T1_3/PC3, 27 SPI_SCK/PC5, 28 VSSIO_2, 29 VDDIO_2, 30 SPI_SI/PC6, 31 SPI_SO/PC7, 32 PG0, 33 PG1, 34 IIC_SDA/PE2, 35 IIC_SCL/PE1, 36 CLK_CCO/PE0, 37 [CLK_CCO][T1_BKIN]T3_2/PD0, 38 SWIM/PD1, 39 [T2_3]T3_1/PD2, 40 [ADC_ETR]T2_2/PD3, 41 [BEEP]T2_1/PD4, 42 UATR3_TX/PD5, 43 UART3_RX/PD6, 44 TLI/PD7

## STM8S208C6
designator U?
8位STM单片机; 版权归属: 黎明电子style; BOM名称: 8位STM单片机; 学习资源: https://lmdzstyle.taobao.com/
footprint LQFP48 7x7_N (7*7*1.4(长宽高，除引脚）)
footprint LQFP48 7x7_L (7*7*1.4(长宽高，除引脚）)
footprint LQFP48 7x7_M (7*7*1.4(长宽高，除引脚）)
pins: 1 NRST, 2 PA1/OSCIN, 3 PA2/OSCOUT, 4 VSSIO_1, 5 VSS, 6 VCAP, 7 VDD, 8 VDDIO_1, 9 PA3/T2_3[T3_1], 10 PA4/UART1_RX, 11 PA5/UART1_TX, 12 PA6/UART1_CK, 13 VDDA, 14 VSSA, 15 PB7/A7, 16 PB6/A6, 17 PB5/A5 [IIC_SDA], 18 PB4/A4 [IIC_SCL], 19 PB3/A3 [T1_ETR], 20 PB2/A2 [T1_3N], 21 PB1/A1 [T1_2N], 22 PB0/A0 [T1_1N], 23 PE7/A8, 24 PE6/A9, 25 SPI_NSS/PE5, 26 T1_1/PC1, 27 T1_2/PC2, 28 T1_3/PC3, 29 T1_4/PC4, 30 SPI_SCK/PC5, 31 VSSIO_2, 32 VDDIO_2, 33 SPI_SI/PC6, 34 SPI_SO/PC7, 35 CAN_TX/PG0, 36 CAN_RX/PG1, 37 T1_BKIN/PE3, 38 IIC_SDA/PE2, 39 IIC_SCL/PE1, 40 CLK_CCO/PE0, 41 [CLK_CCO][T1_BKIN]T3_2/PD0, 42 SWIM/PD1, 43 [T2_3]T3_1/PD2, 44 [ADC_ETR]T2_2/PD3, 45 [BEEP]T2_1/PD4, 46 UATR3_TX/PD5, 47 UART3_RX/PD6, 48 TLI/PD7

## STM8S208C8
designator U?
8位STM单片机; 版权归属: 黎明电子style; BOM名称: 8位STM单片机; 学习资源: https://lmdzstyle.taobao.com/
footprint LQFP48 7x7_N (7*7*1.4(长宽高，除引脚）)
footprint LQFP48 7x7_L (7*7*1.4(长宽高，除引脚）)
footprint LQFP48 7x7_M (7*7*1.4(长宽高，除引脚）)
pins: 1 NRST, 2 PA1/OSCIN, 3 PA2/OSCOUT, 4 VSSIO_1, 5 VSS, 6 VCAP, 7 VDD, 8 VDDIO_1, 9 PA3/T2_3[T3_1], 10 PA4/UART1_RX, 11 PA5/UART1_TX, 12 PA6/UART1_CK, 13 VDDA, 14 VSSA, 15 PB7/A7, 16 PB6/A6, 17 PB5/A5 [IIC_SDA], 18 PB4/A4 [IIC_SCL], 19 PB3/A3 [T1_ETR], 20 PB2/A2 [T1_3N], 21 PB1/A1 [T1_2N], 22 PB0/A0 [T1_1N], 23 PE7/A8, 24 PE6/A9, 25 SPI_NSS/PE5, 26 T1_1/PC1, 27 T1_2/PC2, 28 T1_3/PC3, 29 T1_4/PC4, 30 SPI_SCK/PC5, 31 VSSIO_2, 32 VDDIO_2, 33 SPI_SI/PC6, 34 SPI_SO/PC7, 35 CAN_TX/PG0, 36 CAN_RX/PG1, 37 T1_BKIN/PE3, 38 IIC_SDA/PE2, 39 IIC_SCL/PE1, 40 CLK_CCO/PE0, 41 [CLK_CCO][T1_BKIN]T3_2/PD0, 42 SWIM/PD1, 43 [T2_3]T3_1/PD2, 44 [ADC_ETR]T2_2/PD3, 45 [BEEP]T2_1/PD4, 46 UATR3_TX/PD5, 47 UART3_RX/PD6, 48 TLI/PD7

## STM8S208CB
designator U?
8位STM单片机; 版权归属: 黎明电子style; BOM名称: 8位STM单片机; 学习资源: https://lmdzstyle.taobao.com/
footprint LQFP48 7x7_N (7*7*1.4(长宽高，除引脚）)
footprint LQFP48 7x7_L (7*7*1.4(长宽高，除引脚）)
footprint LQFP48 7x7_M (7*7*1.4(长宽高，除引脚）)
pins: 1 NRST, 2 PA1/OSCIN, 3 PA2/OSCOUT, 4 VSSIO_1, 5 VSS, 6 VCAP, 7 VDD, 8 VDDIO_1, 9 PA3/T2_3[T3_1], 10 PA4/UART1_RX, 11 PA5/UART1_TX, 12 PA6/UART1_CK, 13 VDDA, 14 VSSA, 15 PB7/A7, 16 PB6/A6, 17 PB5/A5 [IIC_SDA], 18 PB4/A4 [IIC_SCL], 19 PB3/A3 [T1_ETR], 20 PB2/A2 [T1_3N], 21 PB1/A1 [T1_2N], 22 PB0/A0 [T1_1N], 23 PE7/A8, 24 PE6/A9, 25 SPI_NSS/PE5, 26 T1_1/PC1, 27 T1_2/PC2, 28 T1_3/PC3, 29 T1_4/PC4, 30 SPI_SCK/PC5, 31 VSSIO_2, 32 VDDIO_2, 33 SPI_SI/PC6, 34 SPI_SO/PC7, 35 CAN_TX/PG0, 36 CAN_RX/PG1, 37 T1_BKIN/PE3, 38 IIC_SDA/PE2, 39 IIC_SCL/PE1, 40 CLK_CCO/PE0, 41 [CLK_CCO][T1_BKIN]T3_2/PD0, 42 SWIM/PD1, 43 [T2_3]T3_1/PD2, 44 [ADC_ETR]T2_2/PD3, 45 [BEEP]T2_1/PD4, 46 UATR3_TX/PD5, 47 UART3_RX/PD6, 48 TLI/PD7

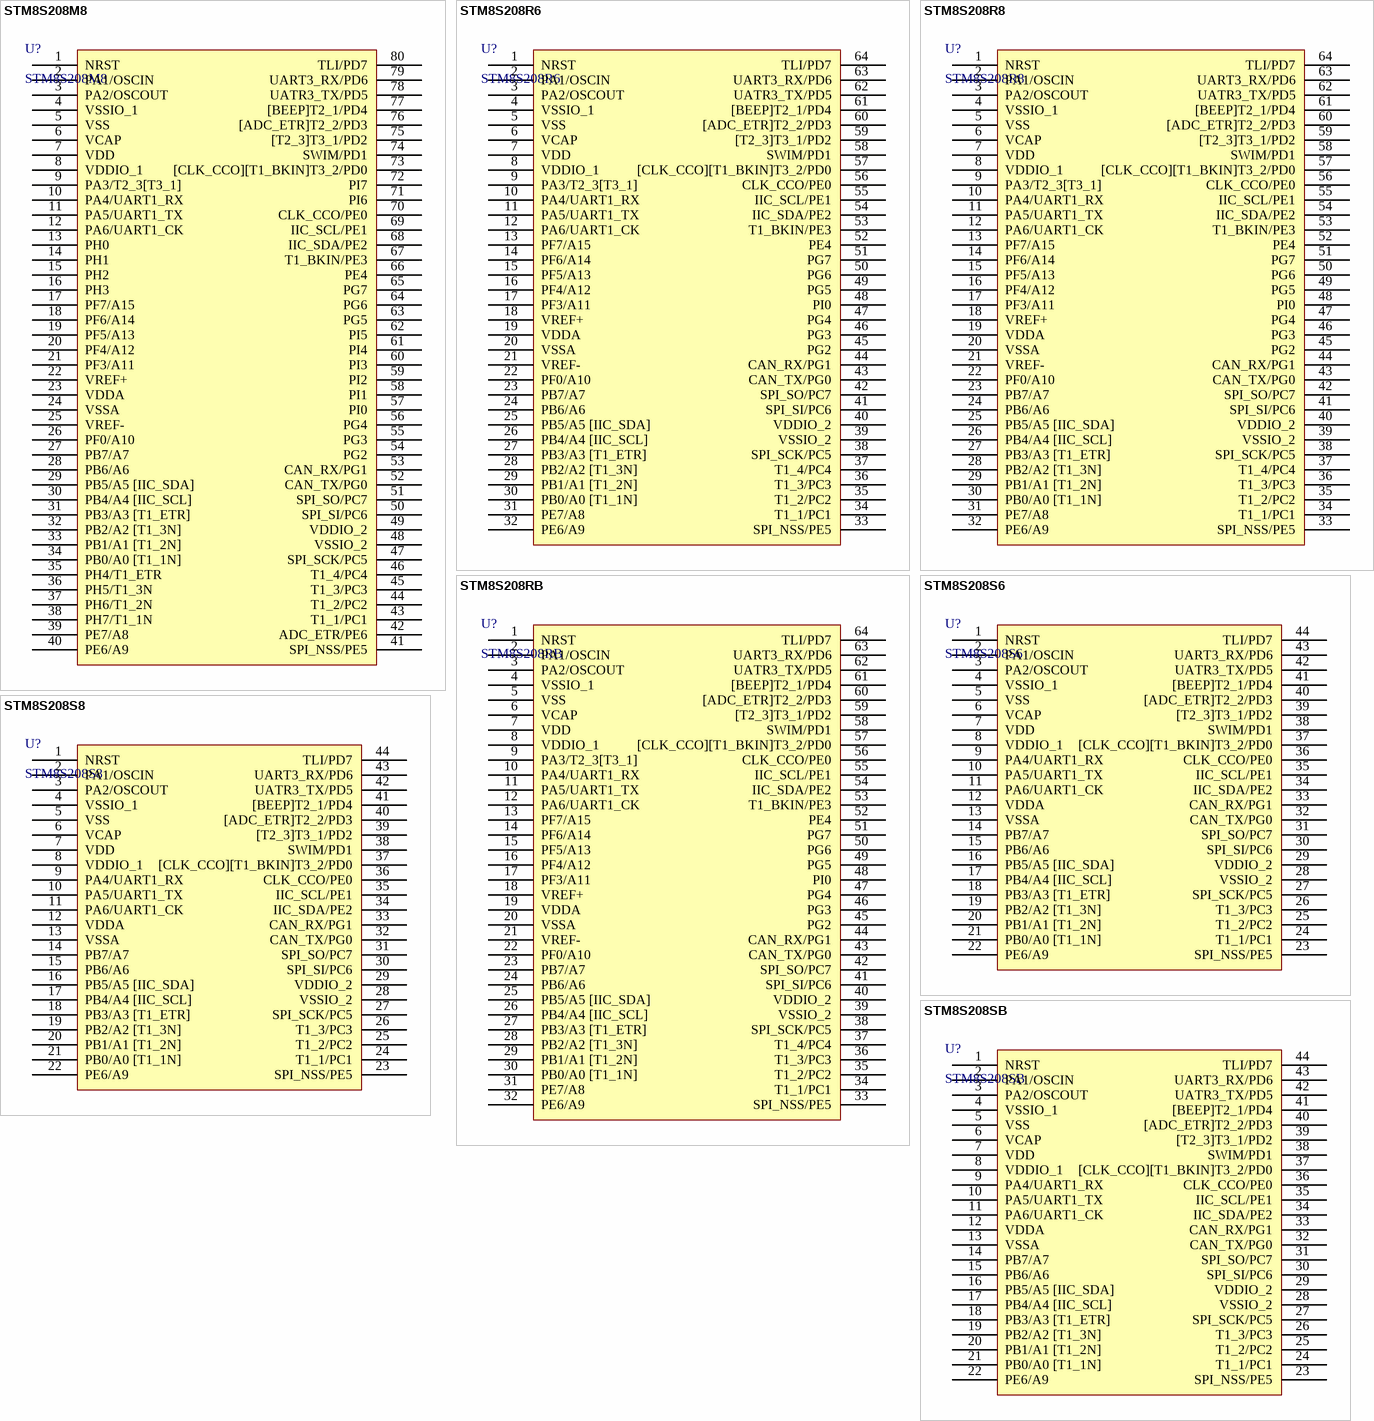
[diagram p3: symbols STM8S208M8 to STM8S208SB]

## STM8S208M8
designator U?
8位STM单片机; 版权归属: 黎明电子style; BOM名称: 8位STM单片机; 学习资源: https://lmdzstyle.taobao.com/
footprint LQFP80 14x14_N (14*14*1.4(长宽高，除引脚）)
footprint LQFP80 14x14_L (14*14*1.4(长宽高，除引脚）)
footprint LQFP80 14x14_M (14*14*1.4(长宽高，除引脚）)
pins: 1 NRST, 2 PA1/OSCIN, 3 PA2/OSCOUT, 4 VSSIO_1, 5 VSS, 6 VCAP, 7 VDD, 8 VDDIO_1, 9 PA3/T2_3[T3_1], 10 PA4/UART1_RX, 11 PA5/UART1_TX, 12 PA6/UART1_CK, 13 PH0, 14 PH1, 15 PH2, 16 PH3, 17 PF7/A15, 18 PF6/A14, 19 PF5/A13, 20 PF4/A12, 21 PF3/A11, 22 VREF+, 23 VDDA, 24 VSSA, 25 VREF-, 26 PF0/A10, 27 PB7/A7, 28 PB6/A6, 29 PB5/A5 [IIC_SDA], 30 PB4/A4 [IIC_SCL], 31 PB3/A3 [T1_ETR], 32 PB2/A2 [T1_3N], 33 PB1/A1 [T1_2N], 34 PB0/A0 [T1_1N], 35 PH4/T1_ETR, 36 PH5/T1_3N, 37 PH6/T1_2N, 38 PH7/T1_1N, 39 PE7/A8, 40 PE6/A9, 41 SPI_NSS/PE5, 42 ADC_ETR/PE6, 43 T1_1/PC1, 44 T1_2/PC2, 45 T1_3/PC3, 46 T1_4/PC4, 47 SPI_SCK/PC5, 48 VSSIO_2, 49 VDDIO_2, 50 SPI_SI/PC6, 51 SPI_SO/PC7, 52 CAN_TX/PG0, 53 CAN_RX/PG1, 54 PG2, 55 PG3, 56 PG4, 57 PI0, 58 PI1, 59 PI2, 60 PI3, 61 PI4, 62 PI5, 63 PG5, 64 PG6, 65 PG7, 66 PE4, 67 T1_BKIN/PE3, 68 IIC_SDA/PE2, 69 IIC_SCL/PE1, 70 CLK_CCO/PE0, 71 PI6, 72 PI7, 73 [CLK_CCO][T1_BKIN]T3_2/PD0, 74 SWIM/PD1, 75 [T2_3]T3_1/PD2, 76 [ADC_ETR]T2_2/PD3, 77 [BEEP]T2_1/PD4, 78 UATR3_TX/PD5, 79 UART3_RX/PD6, 80 TLI/PD7

## STM8S208R6
designator U?
8位STM单片机; 版权归属: 黎明电子style; BOM名称: 8位STM单片机; 学习资源: https://lmdzstyle.taobao.com/
footprint LQFP64 10x10_N (14*14*1.4(长宽高，除引脚）)
footprint LQFP64 10x10_L (14*14*1.4(长宽高，除引脚）)
footprint LQFP64 10x10_M (14*14*1.4(长宽高，除引脚）)
pins: 1 NRST, 2 PA1/OSCIN, 3 PA2/OSCOUT, 4 VSSIO_1, 5 VSS, 6 VCAP, 7 VDD, 8 VDDIO_1, 9 PA3/T2_3[T3_1], 10 PA4/UART1_RX, 11 PA5/UART1_TX, 12 PA6/UART1_CK, 13 PF7/A15, 14 PF6/A14, 15 PF5/A13, 16 PF4/A12, 17 PF3/A11, 18 VREF+, 19 VDDA, 20 VSSA, 21 VREF-, 22 PF0/A10, 23 PB7/A7, 24 PB6/A6, 25 PB5/A5 [IIC_SDA], 26 PB4/A4 [IIC_SCL], 27 PB3/A3 [T1_ETR], 28 PB2/A2 [T1_3N], 29 PB1/A1 [T1_2N], 30 PB0/A0 [T1_1N], 31 PE7/A8, 32 PE6/A9, 33 SPI_NSS/PE5, 34 T1_1/PC1, 35 T1_2/PC2, 36 T1_3/PC3, 37 T1_4/PC4, 38 SPI_SCK/PC5, 39 VSSIO_2, 40 VDDIO_2, 41 SPI_SI/PC6, 42 SPI_SO/PC7, 43 CAN_TX/PG0, 44 CAN_RX/PG1, 45 PG2, 46 PG3, 47 PG4, 48 PI0, 49 PG5, 50 PG6, 51 PG7, 52 PE4, 53 T1_BKIN/PE3, 54 IIC_SDA/PE2, 55 IIC_SCL/PE1, 56 CLK_CCO/PE0, 57 [CLK_CCO][T1_BKIN]T3_2/PD0, 58 SWIM/PD1, 59 [T2_3]T3_1/PD2, 60 [ADC_ETR]T2_2/PD3, 61 [BEEP]T2_1/PD4, 62 UATR3_TX/PD5, 63 UART3_RX/PD6, 64 TLI/PD7

## STM8S208R8
designator U?
8位STM单片机; 版权归属: 黎明电子style; BOM名称: 8位STM单片机; 学习资源: https://lmdzstyle.taobao.com/
footprint LQFP64 10x10_N (14*14*1.4(长宽高，除引脚）)
footprint LQFP64 10x10_L (14*14*1.4(长宽高，除引脚）)
footprint LQFP64 10x10_M (14*14*1.4(长宽高，除引脚）)
pins: 1 NRST, 2 PA1/OSCIN, 3 PA2/OSCOUT, 4 VSSIO_1, 5 VSS, 6 VCAP, 7 VDD, 8 VDDIO_1, 9 PA3/T2_3[T3_1], 10 PA4/UART1_RX, 11 PA5/UART1_TX, 12 PA6/UART1_CK, 13 PF7/A15, 14 PF6/A14, 15 PF5/A13, 16 PF4/A12, 17 PF3/A11, 18 VREF+, 19 VDDA, 20 VSSA, 21 VREF-, 22 PF0/A10, 23 PB7/A7, 24 PB6/A6, 25 PB5/A5 [IIC_SDA], 26 PB4/A4 [IIC_SCL], 27 PB3/A3 [T1_ETR], 28 PB2/A2 [T1_3N], 29 PB1/A1 [T1_2N], 30 PB0/A0 [T1_1N], 31 PE7/A8, 32 PE6/A9, 33 SPI_NSS/PE5, 34 T1_1/PC1, 35 T1_2/PC2, 36 T1_3/PC3, 37 T1_4/PC4, 38 SPI_SCK/PC5, 39 VSSIO_2, 40 VDDIO_2, 41 SPI_SI/PC6, 42 SPI_SO/PC7, 43 CAN_TX/PG0, 44 CAN_RX/PG1, 45 PG2, 46 PG3, 47 PG4, 48 PI0, 49 PG5, 50 PG6, 51 PG7, 52 PE4, 53 T1_BKIN/PE3, 54 IIC_SDA/PE2, 55 IIC_SCL/PE1, 56 CLK_CCO/PE0, 57 [CLK_CCO][T1_BKIN]T3_2/PD0, 58 SWIM/PD1, 59 [T2_3]T3_1/PD2, 60 [ADC_ETR]T2_2/PD3, 61 [BEEP]T2_1/PD4, 62 UATR3_TX/PD5, 63 UART3_RX/PD6, 64 TLI/PD7

## STM8S208RB
designator U?
8位STM单片机; 版权归属: 黎明电子style; BOM名称: 8位STM单片机; 学习资源: https://lmdzstyle.taobao.com/
footprint LQFP64 10x10_N (14*14*1.4(长宽高，除引脚）)
footprint LQFP64 10x10_L (14*14*1.4(长宽高，除引脚）)
footprint LQFP64 10x10_M (14*14*1.4(长宽高，除引脚）)
pins: 1 NRST, 2 PA1/OSCIN, 3 PA2/OSCOUT, 4 VSSIO_1, 5 VSS, 6 VCAP, 7 VDD, 8 VDDIO_1, 9 PA3/T2_3[T3_1], 10 PA4/UART1_RX, 11 PA5/UART1_TX, 12 PA6/UART1_CK, 13 PF7/A15, 14 PF6/A14, 15 PF5/A13, 16 PF4/A12, 17 PF3/A11, 18 VREF+, 19 VDDA, 20 VSSA, 21 VREF-, 22 PF0/A10, 23 PB7/A7, 24 PB6/A6, 25 PB5/A5 [IIC_SDA], 26 PB4/A4 [IIC_SCL], 27 PB3/A3 [T1_ETR], 28 PB2/A2 [T1_3N], 29 PB1/A1 [T1_2N], 30 PB0/A0 [T1_1N], 31 PE7/A8, 32 PE6/A9, 33 SPI_NSS/PE5, 34 T1_1/PC1, 35 T1_2/PC2, 36 T1_3/PC3, 37 T1_4/PC4, 38 SPI_SCK/PC5, 39 VSSIO_2, 40 VDDIO_2, 41 SPI_SI/PC6, 42 SPI_SO/PC7, 43 CAN_TX/PG0, 44 CAN_RX/PG1, 45 PG2, 46 PG3, 47 PG4, 48 PI0, 49 PG5, 50 PG6, 51 PG7, 52 PE4, 53 T1_BKIN/PE3, 54 IIC_SDA/PE2, 55 IIC_SCL/PE1, 56 CLK_CCO/PE0, 57 [CLK_CCO][T1_BKIN]T3_2/PD0, 58 SWIM/PD1, 59 [T2_3]T3_1/PD2, 60 [ADC_ETR]T2_2/PD3, 61 [BEEP]T2_1/PD4, 62 UATR3_TX/PD5, 63 UART3_RX/PD6, 64 TLI/PD7

## STM8S208S6
designator U?
8位STM单片机; 版权归属: 黎明电子style; BOM名称: 8位STM单片机; 学习资源: https://lmdzstyle.taobao.com/
footprint LQFP44 10X10_N (10*10*1.4(长宽高，除引脚）)
footprint LQFP44 10X10_L (10*10*1.4(长宽高，除引脚）)
footprint LQFP44 10X10_M (10*10*1.4(长宽高，除引脚）)
pins: 1 NRST, 2 PA1/OSCIN, 3 PA2/OSCOUT, 4 VSSIO_1, 5 VSS, 6 VCAP, 7 VDD, 8 VDDIO_1, 9 PA4/UART1_RX, 10 PA5/UART1_TX, 11 PA6/UART1_CK, 12 VDDA, 13 VSSA, 14 PB7/A7, 15 PB6/A6, 16 PB5/A5 [IIC_SDA], 17 PB4/A4 [IIC_SCL], 18 PB3/A3 [T1_ETR], 19 PB2/A2 [T1_3N], 20 PB1/A1 [T1_2N], 21 PB0/A0 [T1_1N], 22 PE6/A9, 23 SPI_NSS/PE5, 24 T1_1/PC1, 25 T1_2/PC2, 26 T1_3/PC3, 27 SPI_SCK/PC5, 28 VSSIO_2, 29 VDDIO_2, 30 SPI_SI/PC6, 31 SPI_SO/PC7, 32 CAN_TX/PG0, 33 CAN_RX/PG1, 34 IIC_SDA/PE2, 35 IIC_SCL/PE1, 36 CLK_CCO/PE0, 37 [CLK_CCO][T1_BKIN]T3_2/PD0, 38 SWIM/PD1, 39 [T2_3]T3_1/PD2, 40 [ADC_ETR]T2_2/PD3, 41 [BEEP]T2_1/PD4, 42 UATR3_TX/PD5, 43 UART3_RX/PD6, 44 TLI/PD7

## STM8S208S8
designator U?
8位STM单片机; 版权归属: 黎明电子style; BOM名称: 8位STM单片机; 学习资源: https://lmdzstyle.taobao.com/
footprint LQFP44 10X10_N (10*10*1.4(长宽高，除引脚）)
footprint LQFP44 10X10_L (10*10*1.4(长宽高，除引脚）)
footprint LQFP44 10X10_M (10*10*1.4(长宽高，除引脚）)
pins: 1 NRST, 2 PA1/OSCIN, 3 PA2/OSCOUT, 4 VSSIO_1, 5 VSS, 6 VCAP, 7 VDD, 8 VDDIO_1, 9 PA4/UART1_RX, 10 PA5/UART1_TX, 11 PA6/UART1_CK, 12 VDDA, 13 VSSA, 14 PB7/A7, 15 PB6/A6, 16 PB5/A5 [IIC_SDA], 17 PB4/A4 [IIC_SCL], 18 PB3/A3 [T1_ETR], 19 PB2/A2 [T1_3N], 20 PB1/A1 [T1_2N], 21 PB0/A0 [T1_1N], 22 PE6/A9, 23 SPI_NSS/PE5, 24 T1_1/PC1, 25 T1_2/PC2, 26 T1_3/PC3, 27 SPI_SCK/PC5, 28 VSSIO_2, 29 VDDIO_2, 30 SPI_SI/PC6, 31 SPI_SO/PC7, 32 CAN_TX/PG0, 33 CAN_RX/PG1, 34 IIC_SDA/PE2, 35 IIC_SCL/PE1, 36 CLK_CCO/PE0, 37 [CLK_CCO][T1_BKIN]T3_2/PD0, 38 SWIM/PD1, 39 [T2_3]T3_1/PD2, 40 [ADC_ETR]T2_2/PD3, 41 [BEEP]T2_1/PD4, 42 UATR3_TX/PD5, 43 UART3_RX/PD6, 44 TLI/PD7

## STM8S208SB
designator U?
8位STM单片机; 版权归属: 黎明电子style; BOM名称: 8位STM单片机; 学习资源: https://lmdzstyle.taobao.com/
footprint LQFP44 10X10_N (10*10*1.4(长宽高，除引脚）)
footprint LQFP44 10X10_L (10*10*1.4(长宽高，除引脚）)
footprint LQFP44 10X10_M (10*10*1.4(长宽高，除引脚）)
pins: 1 NRST, 2 PA1/OSCIN, 3 PA2/OSCOUT, 4 VSSIO_1, 5 VSS, 6 VCAP, 7 VDD, 8 VDDIO_1, 9 PA4/UART1_RX, 10 PA5/UART1_TX, 11 PA6/UART1_CK, 12 VDDA, 13 VSSA, 14 PB7/A7, 15 PB6/A6, 16 PB5/A5 [IIC_SDA], 17 PB4/A4 [IIC_SCL], 18 PB3/A3 [T1_ETR], 19 PB2/A2 [T1_3N], 20 PB1/A1 [T1_2N], 21 PB0/A0 [T1_1N], 22 PE6/A9, 23 SPI_NSS/PE5, 24 T1_1/PC1, 25 T1_2/PC2, 26 T1_3/PC3, 27 SPI_SCK/PC5, 28 VSSIO_2, 29 VDDIO_2, 30 SPI_SI/PC6, 31 SPI_SO/PC7, 32 CAN_TX/PG0, 33 CAN_RX/PG1, 34 IIC_SDA/PE2, 35 IIC_SCL/PE1, 36 CLK_CCO/PE0, 37 [CLK_CCO][T1_BKIN]T3_2/PD0, 38 SWIM/PD1, 39 [T2_3]T3_1/PD2, 40 [ADC_ETR]T2_2/PD3, 41 [BEEP]T2_1/PD4, 42 UATR3_TX/PD5, 43 UART3_RX/PD6, 44 TLI/PD7